# Altium integrated library TI Power Management Switching Regulator Charge Pump (Inductorless).IntLib: 239 symbols (part 11 of 14)
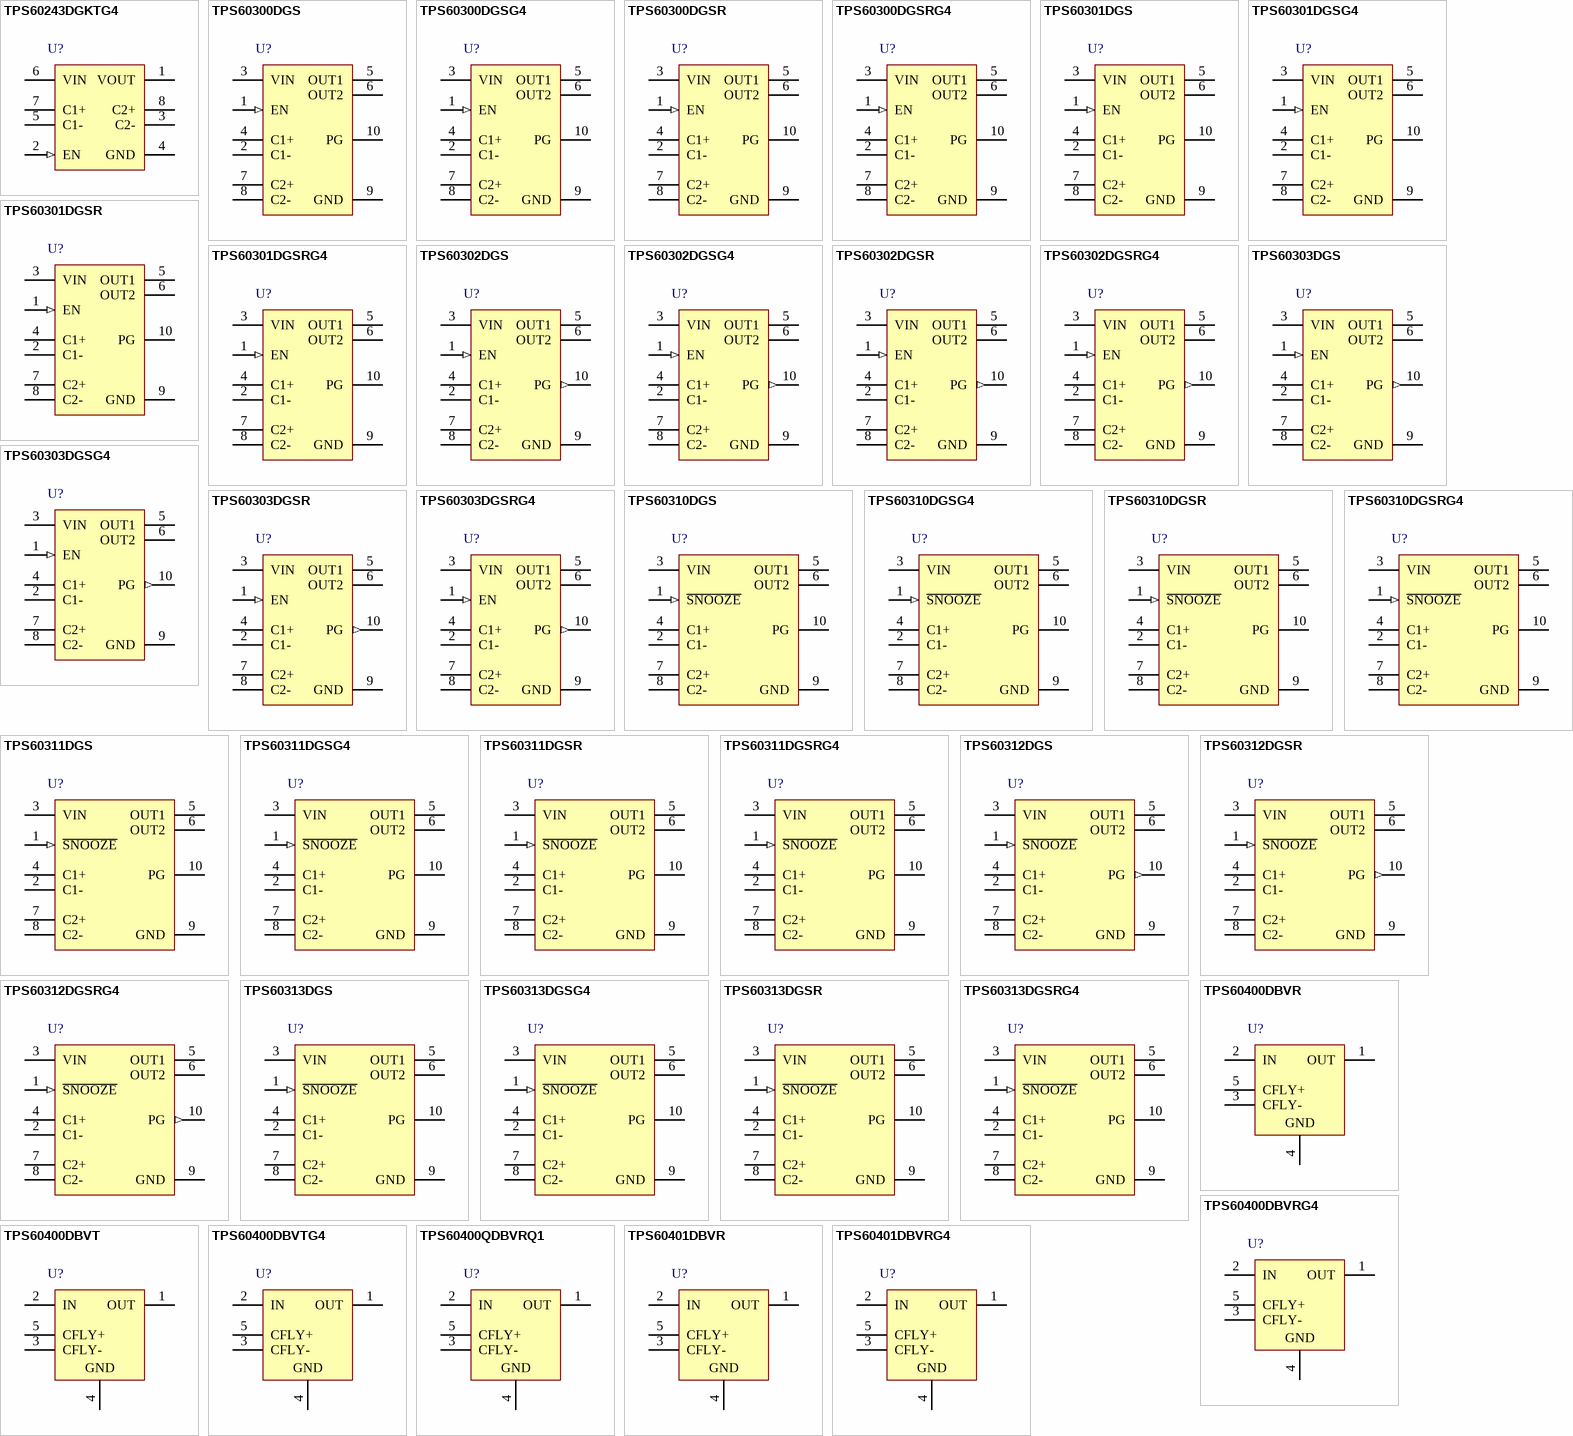
[diagram p17: symbols TPS60243DGKTG4 to TPS60401DBVRG4]

## TPS60300DGSG4
designator U?
3.3 V, Boost Charge Pump, 20 mA, 0.9 to 1.8 V Input, -40 to 85 degC, 10-pin SOP (DGS10), Green (RoHS & no Sb/Br); Manufacturer: Texas Instruments; PartNumber: TPS60300DGSG4; Efficiency(Typ)(%): 85; Iout(Max)(A): 0.02; Iq(Typ)(mA): 0.035; Preset Vout(V): 3.3; Vin(Max)(V): 1.8; Vin(Min)(V): 0.9; Vout(Max)(V): 3.43; Vout(Min)(V): 3.17; DatasheetVersion: SLVS302A; PackageVersion: 4073225-6/I; PackageReference: DGS10; PackageDescription: 10-Pin Plastic Small Outline, Body 3.00 x 3.00 mm, Pitch 0.50 mm; Supplier 1: Digi-Key; Supplier Part Number 1: TPS60300DGSG4-ND; Supplier 2: Newark; Supplier Part Number 2: 58K6941; Supplier 3: Mouser; Supplier Part Number 3: 595-TPS60300DGSG4; Eco-Plan: Green (RoHS & no Sb/Br); Topology: Boost; Mounting Technology: Surface Mount; Code_JEDEC: MO-153; ComponentLink1Description: Manufacturer URL; ComponentLink1URL: http://www.ti.com/; ComponentLink2Description: Datasheet; ComponentLink2URL: http://www.ti.com/general/docs/lit/getliterature.tsp?genericPartNumber=TPS60300&fileType=pdf; ComponentLink3Description: Package Specification; ComponentLink3URL: http://www.ti.com/litv/pdf/mpds373
footprint TI-DGS10_N (SOP, 10-Leads, Body 3x3mm, Pitch 0.5mm, IPC Medium Density)
footprint TI-DGS10_L (SOP, 10-Leads, Body 3x3mm, Pitch 0.5mm, IPC High Density)
footprint TI-DGS10_M (SOP, 10-Leads, Body 3x3mm, Pitch 0.5mm, IPC Low Density)
pins: 1 EN (in) "Device-enable input       - EN = Low disables the device. Output and input are isolated in shutdown mode.   - EN = High enables the device.", 2 C1- "Negative terminal of the flying capacitor C1F", 3 VIN (power) "Supply input. Bypass VIN to GND with a >=1-µF capacitor", 4 C1+ "Positive terminal of the flying capacitor C1F", 5 OUT1 (power) "2 x VIN power output. Bypass OUT1 to GND with the output filter capacitor C(OUT1)", 6 OUT2 (power) "Regulated 3.3-V power output (TPS60300, TPS60302) or 3-V power output (TPS60301, TPS60303), respectively Bypass OUT2 to GND with the output filter capacitor C(OUT2)", 7 C2+ "Positive terminal of the flying capacitor C2F", 8 C2- "Negative terminal of the flying capacitor C2F", 9 GND (power) "GROUND", 10 PG (oc) "Power good detector output. As soon as the voltage on OUT2 reaches about 98% of its nominal value this pin goes high.Open drain output on TPS60300 and TPS60301. A pullup resistor should be connected between PG and OUT1 or (See Datasheet)"

## TPS60300DGSR
designator U?
3.3 V, Boost Charge Pump, 20 mA, 0.9 to 1.8 V Input, -40 to 85 degC, 10-pin SOP (DGS10), Green (RoHS & no Sb/Br); Manufacturer: Texas Instruments; PartNumber: TPS60300DGSR; Efficiency(Typ)(%): 85; Iout(Max)(A): 0.02; Iq(Typ)(mA): 0.035; Preset Vout(V): 3.3; Vin(Max)(V): 1.8; Vin(Min)(V): 0.9; Vout(Max)(V): 3.43; Vout(Min)(V): 3.17; DatasheetVersion: SLVS302A; PackageVersion: 4073225-6/I; PackageReference: DGS10; PackageDescription: 10-Pin Plastic Small Outline, Body 3.00 x 3.00 mm, Pitch 0.50 mm; Supplier 1: Digi-Key; Supplier Part Number 1: 296-13410-2-ND; Supplier 2: Digi-Key; Supplier Part Number 2: 296-13410-1-ND; Supplier 3: Digi-Key; Supplier Part Number 3: 296-13410-6-ND; Supplier 4: Newark; Supplier Part Number 4: 77C0609; Supplier 5: Mouser; Supplier Part Number 5: 595-TPS60300DGSR; Eco-Plan: Green (RoHS & no Sb/Br); Topology: Boost; Mounting Technology: Surface Mount; Code_JEDEC: MO-153; ComponentLink1Description: Manufacturer URL; ComponentLink1URL: http://www.ti.com/; ComponentLink2Description: Datasheet; ComponentLink2URL: http://www.ti.com/general/docs/lit/getliterature.tsp?genericPartNumber=TPS60300&fileType=pdf; ComponentLink3Description: Package Specification; ComponentLink3URL: http://www.ti.com/litv/pdf/mpds373
footprint TI-DGS10_N (SOP, 10-Leads, Body 3x3mm, Pitch 0.5mm, IPC Medium Density)
footprint TI-DGS10_L (SOP, 10-Leads, Body 3x3mm, Pitch 0.5mm, IPC High Density)
footprint TI-DGS10_M (SOP, 10-Leads, Body 3x3mm, Pitch 0.5mm, IPC Low Density)
pins: 1 EN (in) "Device-enable input       - EN = Low disables the device. Output and input are isolated in shutdown mode.   - EN = High enables the device.", 2 C1- "Negative terminal of the flying capacitor C1F", 3 VIN (power) "Supply input. Bypass VIN to GND with a >=1-µF capacitor", 4 C1+ "Positive terminal of the flying capacitor C1F", 5 OUT1 (power) "2 x VIN power output. Bypass OUT1 to GND with the output filter capacitor C(OUT1)", 6 OUT2 (power) "Regulated 3.3-V power output (TPS60300, TPS60302) or 3-V power output (TPS60301, TPS60303), respectively Bypass OUT2 to GND with the output filter capacitor C(OUT2)", 7 C2+ "Positive terminal of the flying capacitor C2F", 8 C2- "Negative terminal of the flying capacitor C2F", 9 GND (power) "GROUND", 10 PG (oc) "Power good detector output. As soon as the voltage on OUT2 reaches about 98% of its nominal value this pin goes high.Open drain output on TPS60300 and TPS60301. A pullup resistor should be connected between PG and OUT1 or (See Datasheet)"

## TPS60300DGSRG4
designator U?
3.3 V, Boost Charge Pump, 20 mA, 0.9 to 1.8 V Input, -40 to 85 degC, 10-pin SOP (DGS10), Green (RoHS & no Sb/Br); Manufacturer: Texas Instruments; PartNumber: TPS60300DGSRG4; Efficiency(Typ)(%): 85; Iout(Max)(A): 0.02; Iq(Typ)(mA): 0.035; Preset Vout(V): 3.3; Vin(Max)(V): 1.8; Vin(Min)(V): 0.9; Vout(Max)(V): 3.43; Vout(Min)(V): 3.17; DatasheetVersion: SLVS302A; PackageVersion: 4073225-6/I; PackageReference: DGS10; PackageDescription: 10-Pin Plastic Small Outline, Body 3.00 x 3.00 mm, Pitch 0.50 mm; Supplier 1: Digi-Key; Supplier Part Number 1: TPS60300DGSRG4-ND; Supplier 2: Mouser; Supplier Part Number 2: 595-TPS60300DGSRG4; Eco-Plan: Green (RoHS & no Sb/Br); Topology: Boost; Mounting Technology: Surface Mount; Code_JEDEC: MO-153; ComponentLink1Description: Manufacturer URL; ComponentLink1URL: http://www.ti.com/; ComponentLink2Description: Datasheet; ComponentLink2URL: http://www.ti.com/general/docs/lit/getliterature.tsp?genericPartNumber=TPS60300&fileType=pdf; ComponentLink3Description: Package Specification; ComponentLink3URL: http://www.ti.com/litv/pdf/mpds373
footprint TI-DGS10_N (SOP, 10-Leads, Body 3x3mm, Pitch 0.5mm, IPC Medium Density)
footprint TI-DGS10_L (SOP, 10-Leads, Body 3x3mm, Pitch 0.5mm, IPC High Density)
footprint TI-DGS10_M (SOP, 10-Leads, Body 3x3mm, Pitch 0.5mm, IPC Low Density)
pins: 1 EN (in) "Device-enable input       - EN = Low disables the device. Output and input are isolated in shutdown mode.   - EN = High enables the device.", 2 C1- "Negative terminal of the flying capacitor C1F", 3 VIN (power) "Supply input. Bypass VIN to GND with a >=1-µF capacitor", 4 C1+ "Positive terminal of the flying capacitor C1F", 5 OUT1 (power) "2 x VIN power output. Bypass OUT1 to GND with the output filter capacitor C(OUT1)", 6 OUT2 (power) "Regulated 3.3-V power output (TPS60300, TPS60302) or 3-V power output (TPS60301, TPS60303), respectively Bypass OUT2 to GND with the output filter capacitor C(OUT2)", 7 C2+ "Positive terminal of the flying capacitor C2F", 8 C2- "Negative terminal of the flying capacitor C2F", 9 GND (power) "GROUND", 10 PG (oc) "Power good detector output. As soon as the voltage on OUT2 reaches about 98% of its nominal value this pin goes high.Open drain output on TPS60300 and TPS60301. A pullup resistor should be connected between PG and OUT1 or (See Datasheet)"

## TPS60301DGS
designator U?
3 V, Boost Charge Pump, 20 mA, 0.9 to 1.8 V Input, -40 to 85 degC, 10-pin SOP (DGS10), Green (RoHS & no Sb/Br); Manufacturer: Texas Instruments; PartNumber: TPS60301DGS; Efficiency(Typ)(%): 85; Iout(Max)(A): 0.02; Iq(Typ)(mA): 0.035; Preset Vout(V): 3; Switching Frequency(Max)(kHz): 650; Vin(Max)(V): 1.8; Vin(Min)(V): 0.9; Vout(Max)(V): 2.88; Vout(Min)(V): 3.12; DatasheetVersion: SLVS302A; PackageVersion: 4073225-6/I; PackageReference: DGS10; PackageDescription: 10-Pin Plastic Small Outline, Body 3.00 x 3.00 mm, Pitch 0.50 mm; Supplier 1: Digi-Key; Supplier Part Number 1: TPS60301DGS-ND; Supplier 2: Mouser; Supplier Part Number 2: 595-TPS60301DGS; Eco-Plan: Green (RoHS & no Sb/Br); Topology: Boost; Mounting Technology: Surface Mount; Code_JEDEC: MO-153; ComponentLink1Description: Manufacturer URL; ComponentLink1URL: http://www.ti.com/; ComponentLink2Description: Datasheet; ComponentLink2URL: http://www.ti.com/general/docs/lit/getliterature.tsp?genericPartNumber=TPS60301&fileType=pdf; ComponentLink3Description: Package Specification; ComponentLink3URL: http://www.ti.com/litv/pdf/mpds373
footprint TI-DGS10_N (SOP, 10-Leads, Body 3x3mm, Pitch 0.5mm, IPC Medium Density)
footprint TI-DGS10_L (SOP, 10-Leads, Body 3x3mm, Pitch 0.5mm, IPC High Density)
footprint TI-DGS10_M (SOP, 10-Leads, Body 3x3mm, Pitch 0.5mm, IPC Low Density)
pins: 1 EN (in) "Device-enable input - EN = Low disables the device. Output and input are isolated in shutdown mode.- EN = High enables the device.", 2 C1- "Negative terminal of the flying capacitor C1F", 3 VIN (power) "Supply input. Bypass VIN to GND with a >=1-µF capacitor.", 4 C1+ "Positive terminal of the flying capacitor C1F", 5 OUT1 (power) "2 x VIN power output. Bypass OUT1 to GND with the output filter capacitor C(OUT1)", 6 OUT2 (power) "Regulated 3.3-V power output (TPS60300, TPS60302) or 3-V power output (TPS60301, TPS60303), respectively Bypass OUT2 to GND with the output filter capacitor C(OUT2)", 7 C2+ "Positive terminal of the flying capacitor C2F", 8 C2- "Negative terminal of the flying capacitor C2F", 9 GND (power) "GROUND", 10 PG (oc) "Power good detector output. As soon as the voltage on OUT2 reaches about 98% of its nominal value this pin goes high. Open drain output on TPS60300 and TPS60301. A pullup resistor should be connected between PG and OUT1 or (See Datasheet)"

## TPS60301DGSG4
designator U?
3 V, Boost Charge Pump, 20 mA, 0.9 to 1.8 V Input, -40 to 85 degC, 10-pin SOP (DGS10), Green (RoHS & no Sb/Br); Manufacturer: Texas Instruments; PartNumber: TPS60301DGSG4; Efficiency(Typ)(%): 85; Iout(Max)(A): 0.02; Iq(Typ)(mA): 0.035; Preset Vout(V): 3; Switching Frequency(Max)(kHz): 650; Vin(Max)(V): 1.8; Vin(Min)(V): 0.9; Vout(Max)(V): 2.88; Vout(Min)(V): 3.12; DatasheetVersion: SLVS302A; PackageVersion: 4073225-6/I; PackageReference: DGS10; PackageDescription: 10-Pin Plastic Small Outline, Body 3.00 x 3.00 mm, Pitch 0.50 mm; Supplier 1: Digi-Key; Supplier Part Number 1: TPS60301DGSG4-ND; Supplier 2: Newark; Supplier Part Number 2: 60M1800; Supplier 3: Mouser; Supplier Part Number 3: 595-TPS60301DGSG4; Eco-Plan: Green (RoHS & no Sb/Br); Topology: Boost; Mounting Technology: Surface Mount; Code_JEDEC: MO-153; ComponentLink1Description: Manufacturer URL; ComponentLink1URL: http://www.ti.com/; ComponentLink2Description: Datasheet; ComponentLink2URL: http://www.ti.com/general/docs/lit/getliterature.tsp?genericPartNumber=TPS60301&fileType=pdf; ComponentLink3Description: Package Specification; ComponentLink3URL: http://www.ti.com/litv/pdf/mpds373
footprint TI-DGS10_N (SOP, 10-Leads, Body 3x3mm, Pitch 0.5mm, IPC Medium Density)
footprint TI-DGS10_L (SOP, 10-Leads, Body 3x3mm, Pitch 0.5mm, IPC High Density)
footprint TI-DGS10_M (SOP, 10-Leads, Body 3x3mm, Pitch 0.5mm, IPC Low Density)
pins: 1 EN (in) "Device-enable input - EN = Low disables the device. Output and input are isolated in shutdown mode.- EN = High enables the device.", 2 C1- "Negative terminal of the flying capacitor C1F", 3 VIN (power) "Supply input. Bypass VIN to GND with a >=1-µF capacitor.", 4 C1+ "Positive terminal of the flying capacitor C1F", 5 OUT1 (power) "2 x VIN power output. Bypass OUT1 to GND with the output filter capacitor C(OUT1)", 6 OUT2 (power) "Regulated 3.3-V power output (TPS60300, TPS60302) or 3-V power output (TPS60301, TPS60303), respectively Bypass OUT2 to GND with the output filter capacitor C(OUT2)", 7 C2+ "Positive terminal of the flying capacitor C2F", 8 C2- "Negative terminal of the flying capacitor C2F", 9 GND (power) "GROUND", 10 PG (oc) "Power good detector output. As soon as the voltage on OUT2 reaches about 98% of its nominal value this pin goes high. Open drain output on TPS60300 and TPS60301. A pullup resistor should be connected between PG and OUT1 or (See Datasheet)"

## TPS60301DGSR
designator U?
3 V, Boost Charge Pump, 20 mA, 0.9 to 1.8 V Input, -40 to 85 degC, 10-pin SOP (DGS10), Green (RoHS & no Sb/Br); Manufacturer: Texas Instruments; PartNumber: TPS60301DGSR; Efficiency(Typ)(%): 85; Iout(Max)(A): 0.02; Iq(Typ)(mA): 0.035; Preset Vout(V): 3; Switching Frequency(Max)(kHz): 650; Vin(Max)(V): 1.8; Vin(Min)(V): 0.9; Vout(Max)(V): 2.88; Vout(Min)(V): 3.12; DatasheetVersion: SLVS302A; PackageVersion: 4073225-6/I; PackageReference: DGS10; PackageDescription: 10-Pin Plastic Small Outline, Body 3.00 x 3.00 mm, Pitch 0.50 mm; Supplier 1: Digi-Key; Supplier Part Number 1: 296-13411-2-ND; Supplier 2: Digi-Key; Supplier Part Number 2: 296-13411-1-ND; Supplier 3: Digi-Key; Supplier Part Number 3: 296-13411-6-ND; Supplier 4: Newark; Supplier Part Number 4: 77C0611; Supplier 5: Mouser; Supplier Part Number 5: 595-TPS60301DGSR; Eco-Plan: Green (RoHS & no Sb/Br); Topology: Boost; Mounting Technology: Surface Mount; Code_JEDEC: MO-153; ComponentLink1Description: Manufacturer URL; ComponentLink1URL: http://www.ti.com/; ComponentLink2Description: Datasheet; ComponentLink2URL: http://www.ti.com/general/docs/lit/getliterature.tsp?genericPartNumber=TPS60301&fileType=pdf; ComponentLink3Description: Package Specification; ComponentLink3URL: http://www.ti.com/litv/pdf/mpds373
footprint TI-DGS10_N (SOP, 10-Leads, Body 3x3mm, Pitch 0.5mm, IPC Medium Density)
footprint TI-DGS10_L (SOP, 10-Leads, Body 3x3mm, Pitch 0.5mm, IPC High Density)
footprint TI-DGS10_M (SOP, 10-Leads, Body 3x3mm, Pitch 0.5mm, IPC Low Density)
pins: 1 EN (in) "Device-enable input - EN = Low disables the device. Output and input are isolated in shutdown mode.- EN = High enables the device.", 2 C1- "Negative terminal of the flying capacitor C1F", 3 VIN (power) "Supply input. Bypass VIN to GND with a >=1-µF capacitor.", 4 C1+ "Positive terminal of the flying capacitor C1F", 5 OUT1 (power) "2 x VIN power output. Bypass OUT1 to GND with the output filter capacitor C(OUT1)", 6 OUT2 (power) "Regulated 3.3-V power output (TPS60300, TPS60302) or 3-V power output (TPS60301, TPS60303), respectively Bypass OUT2 to GND with the output filter capacitor C(OUT2)", 7 C2+ "Positive terminal of the flying capacitor C2F", 8 C2- "Negative terminal of the flying capacitor C2F", 9 GND (power) "GROUND", 10 PG (oc) "Power good detector output. As soon as the voltage on OUT2 reaches about 98% of its nominal value this pin goes high. Open drain output on TPS60300 and TPS60301. A pullup resistor should be connected between PG and OUT1 or (See Datasheet)"

## TPS60301DGSRG4
designator U?
3 V, Boost Charge Pump, 20 mA, 0.9 to 1.8 V Input, -40 to 85 degC, 10-pin SOP (DGS10), Green (RoHS & no Sb/Br); Manufacturer: Texas Instruments; PartNumber: TPS60301DGSRG4; Efficiency(Typ)(%): 85; Iout(Max)(A): 0.02; Iq(Typ)(mA): 0.035; Preset Vout(V): 3; Switching Frequency(Max)(kHz): 650; Vin(Max)(V): 1.8; Vin(Min)(V): 0.9; Vout(Max)(V): 2.88; Vout(Min)(V): 3.12; DatasheetVersion: SLVS302A; PackageVersion: 4073225-6/I; PackageReference: DGS10; PackageDescription: 10-Pin Plastic Small Outline, Body 3.00 x 3.00 mm, Pitch 0.50 mm; Supplier 1: Digi-Key; Supplier Part Number 1: TPS60301DGSRG4-ND; Supplier 2: Newark; Supplier Part Number 2: 33K7639; Supplier 3: Mouser; Supplier Part Number 3: 595-TPS60301DGSRG4; Eco-Plan: Green (RoHS & no Sb/Br); Topology: Boost; Mounting Technology: Surface Mount; Code_JEDEC: MO-153; ComponentLink1Description: Manufacturer URL; ComponentLink1URL: http://www.ti.com/; ComponentLink2Description: Datasheet; ComponentLink2URL: http://www.ti.com/general/docs/lit/getliterature.tsp?genericPartNumber=TPS60301&fileType=pdf; ComponentLink3Description: Package Specification; ComponentLink3URL: http://www.ti.com/litv/pdf/mpds373
footprint TI-DGS10_N (SOP, 10-Leads, Body 3x3mm, Pitch 0.5mm, IPC Medium Density)
footprint TI-DGS10_L (SOP, 10-Leads, Body 3x3mm, Pitch 0.5mm, IPC High Density)
footprint TI-DGS10_M (SOP, 10-Leads, Body 3x3mm, Pitch 0.5mm, IPC Low Density)
pins: 1 EN (in) "Device-enable input - EN = Low disables the device. Output and input are isolated in shutdown mode.- EN = High enables the device.", 2 C1- "Negative terminal of the flying capacitor C1F", 3 VIN (power) "Supply input. Bypass VIN to GND with a >=1-µF capacitor.", 4 C1+ "Positive terminal of the flying capacitor C1F", 5 OUT1 (power) "2 x VIN power output. Bypass OUT1 to GND with the output filter capacitor C(OUT1)", 6 OUT2 (power) "Regulated 3.3-V power output (TPS60300, TPS60302) or 3-V power output (TPS60301, TPS60303), respectively Bypass OUT2 to GND with the output filter capacitor C(OUT2)", 7 C2+ "Positive terminal of the flying capacitor C2F", 8 C2- "Negative terminal of the flying capacitor C2F", 9 GND (power) "GROUND", 10 PG (oc) "Power good detector output. As soon as the voltage on OUT2 reaches about 98% of its nominal value this pin goes high. Open drain output on TPS60300 and TPS60301. A pullup resistor should be connected between PG and OUT1 or (See Datasheet)"

## TPS60302DGS
designator U?
3.3 V, Boost Charge Pump, 20 mA, 0.9 to 1.8 V Input, -40 to 85 degC, 10-pin SOP (DGS10), Green (RoHS & no Sb/Br); Manufacturer: Texas Instruments; PartNumber: TPS60302DGS; Efficiency(Typ)(%): 85; Iout(Max)(A): 0.02; Iq(Typ)(mA): 0.035; Preset Vout(V): 3.3; Switching Frequency(Max)(kHz): 650; Vin(Max)(V): 1.8; Vin(Min)(V): 0.9; Vout(Max)(V): 3.43; Vout(Min)(V): 3.17; DatasheetVersion: SLVS302A; PackageVersion: 4073225-6/I; PackageReference: DGS10; PackageDescription: 10-Pin Plastic Small Outline, Body 3.00 x 3.00 mm, Pitch 0.50 mm; Supplier 1: Digi-Key; Supplier Part Number 1: TPS60302DGS-ND; Supplier 2: Mouser; Supplier Part Number 2: 595-TPS60302DGS; Eco-Plan: Green (RoHS & no Sb/Br); Topology: Boost; Mounting Technology: Surface Mount; Code_JEDEC: MO-153; ComponentLink1Description: Manufacturer URL; ComponentLink1URL: http://www.ti.com/; ComponentLink2Description: Datasheet; ComponentLink2URL: http://www.ti.com/general/docs/lit/getliterature.tsp?genericPartNumber=TPS60302&fileType=pdf; ComponentLink3Description: Package Specification; ComponentLink3URL: http://www.ti.com/litv/pdf/mpds373
footprint TI-DGS10_N (SOP, 10-Leads, Body 3x3mm, Pitch 0.5mm, IPC Medium Density)
footprint TI-DGS10_L (SOP, 10-Leads, Body 3x3mm, Pitch 0.5mm, IPC High Density)
footprint TI-DGS10_M (SOP, 10-Leads, Body 3x3mm, Pitch 0.5mm, IPC Low Density)
pins: 1 EN (in) "Device-enable input - EN = Low disables the device. Output and input are isolated in shutdown mode.- EN = High enables the device.", 2 C1- "Negative terminal of the flying capacitor C1F", 3 VIN (power) "Supply input. Bypass VIN to GND with a >=1-uF capacitor", 4 C1+ "Positive terminal of the flying capacitor C1F", 5 OUT1 (power) "2 x VIN power output. Bypass OUT1 to GND with the output filter capacitor C(OUT1)", 6 OUT2 (power) "Regulated 3.3-V power output (TPS60300, TPS60302) or 3-V power output (TPS60301, TPS60303), respectively Bypass OUT2 to GND with the output filter capacitor C(OUT2)", 7 C2+ "Positive terminal of the flying capacitor C2F", 8 C2- "Negative terminal of the flying capacitor C2F", 9 GND (power) "GROUND", 10 PG (out) "Power good detector output. As soon as the voltage on OUT2 reaches about 98% of its nominal value this pin goes high. Open drain output on TPS60300 and TPS60301. A pullup resistor should be connected between PG and OUT1 or (See Datasheet)"

## TPS60302DGSG4
designator U?
3.3 V, Boost Charge Pump, 20 mA, 0.9 to 1.8 V Input, -40 to 85 degC, 10-pin SOP (DGS10), Green (RoHS & no Sb/Br); Manufacturer: Texas Instruments; PartNumber: TPS60302DGSG4; Efficiency(Typ)(%): 85; Iout(Max)(A): 0.02; Iq(Typ)(mA): 0.035; Preset Vout(V): 3.3; Switching Frequency(Max)(kHz): 650; Vin(Max)(V): 1.8; Vin(Min)(V): 0.9; Vout(Max)(V): 3.43; Vout(Min)(V): 3.17; DatasheetVersion: SLVS302A; PackageVersion: 4073225-6/I; PackageReference: DGS10; PackageDescription: 10-Pin Plastic Small Outline, Body 3.00 x 3.00 mm, Pitch 0.50 mm; Supplier 1: Digi-Key; Supplier Part Number 1: TPS60302DGSG4-ND; Supplier 2: Newark; Supplier Part Number 2: 52M6120; Supplier 3: Mouser; Supplier Part Number 3: 595-TPS60302DGSG4; Eco-Plan: Green (RoHS & no Sb/Br); Topology: Boost; Mounting Technology: Surface Mount; Code_JEDEC: MO-153; ComponentLink1Description: Manufacturer URL; ComponentLink1URL: http://www.ti.com/; ComponentLink2Description: Datasheet; ComponentLink2URL: http://www.ti.com/general/docs/lit/getliterature.tsp?genericPartNumber=TPS60302&fileType=pdf; ComponentLink3Description: Package Specification; ComponentLink3URL: http://www.ti.com/litv/pdf/mpds373
footprint TI-DGS10_N (SOP, 10-Leads, Body 3x3mm, Pitch 0.5mm, IPC Medium Density)
footprint TI-DGS10_L (SOP, 10-Leads, Body 3x3mm, Pitch 0.5mm, IPC High Density)
footprint TI-DGS10_M (SOP, 10-Leads, Body 3x3mm, Pitch 0.5mm, IPC Low Density)
pins: 1 EN (in) "Device-enable input - EN = Low disables the device. Output and input are isolated in shutdown mode.- EN = High enables the device.", 2 C1- "Negative terminal of the flying capacitor C1F", 3 VIN (power) "Supply input. Bypass VIN to GND with a >=1-uF capacitor", 4 C1+ "Positive terminal of the flying capacitor C1F", 5 OUT1 (power) "2 x VIN power output. Bypass OUT1 to GND with the output filter capacitor C(OUT1)", 6 OUT2 (power) "Regulated 3.3-V power output (TPS60300, TPS60302) or 3-V power output (TPS60301, TPS60303), respectively Bypass OUT2 to GND with the output filter capacitor C(OUT2)", 7 C2+ "Positive terminal of the flying capacitor C2F", 8 C2- "Negative terminal of the flying capacitor C2F", 9 GND (power) "GROUND", 10 PG (out) "Power good detector output. As soon as the voltage on OUT2 reaches about 98% of its nominal value this pin goes high. Open drain output on TPS60300 and TPS60301. A pullup resistor should be connected between PG and OUT1 or (See Datasheet)"

## TPS60302DGSR
designator U?
3.3 V, Boost Charge Pump, 20 mA, 0.9 to 1.8 V Input, -40 to 85 degC, 10-pin SOP (DGS10), Green (RoHS & no Sb/Br); Manufacturer: Texas Instruments; PartNumber: TPS60302DGSR; Efficiency(Typ)(%): 85; Iout(Max)(A): 0.02; Iq(Typ)(mA): 0.035; Preset Vout(V): 3.3; Switching Frequency(Max)(kHz): 650; Vin(Max)(V): 1.8; Vin(Min)(V): 0.9; Vout(Max)(V): 3.43; Vout(Min)(V): 3.17; DatasheetVersion: SLVS302A; PackageVersion: 4073225-6/I; PackageReference: DGS10; PackageDescription: 10-Pin Plastic Small Outline, Body 3.00 x 3.00 mm, Pitch 0.50 mm; Supplier 1: Digi-Key; Supplier Part Number 1: 296-13412-2-ND; Supplier 2: Digi-Key; Supplier Part Number 2: 296-13412-1-ND; Supplier 3: Digi-Key; Supplier Part Number 3: 296-13412-6-ND; Supplier 4: Mouser; Supplier Part Number 4: 595-TPS60302DGSR; Eco-Plan: Green (RoHS & no Sb/Br); Topology: Boost; Mounting Technology: Surface Mount; Code_JEDEC: MO-153; ComponentLink1Description: Manufacturer URL; ComponentLink1URL: http://www.ti.com/; ComponentLink2Description: Datasheet; ComponentLink2URL: http://www.ti.com/general/docs/lit/getliterature.tsp?genericPartNumber=TPS60302&fileType=pdf; ComponentLink3Description: Package Specification; ComponentLink3URL: http://www.ti.com/litv/pdf/mpds373
footprint TI-DGS10_N (SOP, 10-Leads, Body 3x3mm, Pitch 0.5mm, IPC Medium Density)
footprint TI-DGS10_L (SOP, 10-Leads, Body 3x3mm, Pitch 0.5mm, IPC High Density)
footprint TI-DGS10_M (SOP, 10-Leads, Body 3x3mm, Pitch 0.5mm, IPC Low Density)
pins: 1 EN (in) "Device-enable input - EN = Low disables the device. Output and input are isolated in shutdown mode.- EN = High enables the device.", 2 C1- "Negative terminal of the flying capacitor C1F", 3 VIN (power) "Supply input. Bypass VIN to GND with a >=1-uF capacitor", 4 C1+ "Positive terminal of the flying capacitor C1F", 5 OUT1 (power) "2 x VIN power output. Bypass OUT1 to GND with the output filter capacitor C(OUT1)", 6 OUT2 (power) "Regulated 3.3-V power output (TPS60300, TPS60302) or 3-V power output (TPS60301, TPS60303), respectively Bypass OUT2 to GND with the output filter capacitor C(OUT2)", 7 C2+ "Positive terminal of the flying capacitor C2F", 8 C2- "Negative terminal of the flying capacitor C2F", 9 GND (power) "GROUND", 10 PG (out) "Power good detector output. As soon as the voltage on OUT2 reaches about 98% of its nominal value this pin goes high. Open drain output on TPS60300 and TPS60301. A pullup resistor should be connected between PG and OUT1 or (See Datasheet)"

## TPS60302DGSRG4
designator U?
3.3 V, Boost Charge Pump, 20 mA, 0.9 to 1.8 V Input, -40 to 85 degC, 10-pin SOP (DGS10), Green (RoHS & no Sb/Br); Manufacturer: Texas Instruments; PartNumber: TPS60302DGSRG4; Efficiency(Typ)(%): 85; Iout(Max)(A): 0.02; Iq(Typ)(mA): 0.035; Preset Vout(V): 3.3; Switching Frequency(Max)(kHz): 650; Vin(Max)(V): 1.8; Vin(Min)(V): 0.9; Vout(Max)(V): 3.43; Vout(Min)(V): 3.17; DatasheetVersion: SLVS302A; PackageVersion: 4073225-6/I; PackageReference: DGS10; PackageDescription: 10-Pin Plastic Small Outline, Body 3.00 x 3.00 mm, Pitch 0.50 mm; Supplier 1: Digi-Key; Supplier Part Number 1: TPS60302DGSRG4-ND; Supplier 2: Mouser; Supplier Part Number 2: 595-TPS60302DGSRG4; Eco-Plan: Green (RoHS & no Sb/Br); Topology: Boost; Mounting Technology: Surface Mount; Code_JEDEC: MO-153; ComponentLink1Description: Manufacturer URL; ComponentLink1URL: http://www.ti.com/; ComponentLink2Description: Datasheet; ComponentLink2URL: http://www.ti.com/general/docs/lit/getliterature.tsp?genericPartNumber=TPS60302&fileType=pdf; ComponentLink3Description: Package Specification; ComponentLink3URL: http://www.ti.com/litv/pdf/mpds373
footprint TI-DGS10_N (SOP, 10-Leads, Body 3x3mm, Pitch 0.5mm, IPC Medium Density)
footprint TI-DGS10_L (SOP, 10-Leads, Body 3x3mm, Pitch 0.5mm, IPC High Density)
footprint TI-DGS10_M (SOP, 10-Leads, Body 3x3mm, Pitch 0.5mm, IPC Low Density)
pins: 1 EN (in) "Device-enable input - EN = Low disables the device. Output and input are isolated in shutdown mode.- EN = High enables the device.", 2 C1- "Negative terminal of the flying capacitor C1F", 3 VIN (power) "Supply input. Bypass VIN to GND with a >=1-uF capacitor", 4 C1+ "Positive terminal of the flying capacitor C1F", 5 OUT1 (power) "2 x VIN power output. Bypass OUT1 to GND with the output filter capacitor C(OUT1)", 6 OUT2 (power) "Regulated 3.3-V power output (TPS60300, TPS60302) or 3-V power output (TPS60301, TPS60303), respectively Bypass OUT2 to GND with the output filter capacitor C(OUT2)", 7 C2+ "Positive terminal of the flying capacitor C2F", 8 C2- "Negative terminal of the flying capacitor C2F", 9 GND (power) "GROUND", 10 PG (out) "Power good detector output. As soon as the voltage on OUT2 reaches about 98% of its nominal value this pin goes high. Open drain output on TPS60300 and TPS60301. A pullup resistor should be connected between PG and OUT1 or (See Datasheet)"

## TPS60303DGS
designator U?
3 V, Boost Charge Pump, 20 mA, 0.9 to 1.8 V Input, -40 to 85 degC, 10-pin SOP (DGS10), Green (RoHS & no Sb/Br); Manufacturer: Texas Instruments; PartNumber: TPS60303DGS; Efficiency(Typ)(%): 85; Iout(Max)(A): 0.02; Iq(Typ)(mA): 0.035; Preset Vout(V): 3; Switching Frequency(Max)(kHz): 650; Vin(Max)(V): 1.8; Vin(Min)(V): 0.9; Vout(Max)(V): 3.12; Vout(Min)(V): 2.88; DatasheetVersion: SLVS302A; PackageVersion: 4073225-6/I; PackageReference: DGS10; PackageDescription: 10-Pin Plastic Small Outline, Body 3.00 x 3.00 mm, Pitch 0.50 mm; Supplier 1: Digi-Key; Supplier Part Number 1: TPS60303DGS-ND; Supplier 2: Mouser; Supplier Part Number 2: 595-TPS60303DGS; Topology: Boost; Mounting Technology: Surface Mount; Code_JEDEC: MO-153; ComponentLink1Description: Manufacturer URL; ComponentLink1URL: http://www.ti.com/; ComponentLink2Description: Datasheet; ComponentLink2URL: http://www.ti.com/general/docs/lit/getliterature.tsp?genericPartNumber=TPS60303&fileType=pdf; ComponentLink3Description: Package Specification; ComponentLink3URL: http://www.ti.com/litv/pdf/mpds373
footprint TI-DGS10_N (SOP, 10-Leads, Body 3x3mm, Pitch 0.5mm, IPC Medium Density)
footprint TI-DGS10_L (SOP, 10-Leads, Body 3x3mm, Pitch 0.5mm, IPC High Density)
footprint TI-DGS10_M (SOP, 10-Leads, Body 3x3mm, Pitch 0.5mm, IPC Low Density)
pins: 1 EN (in) "Device-enable input - EN = Low disables the device. Output and input are isolated in shutdown mode.- EN = High enables the device.", 2 C1- "Negative terminal of the flying capacitor C1F", 3 VIN (power) "Supply input. Bypass VIN to GND with a >=1-uF capacitor", 4 C1+ "Positive terminal of the flying capacitor C1F", 5 OUT1 (power) "2 x VIN power output. Bypass OUT1 to GND with the output filter capacitor C(OUT1)", 6 OUT2 (power) "Regulated 3.3-V power output (TPS60300, TPS60302) or 3-V power output (TPS60301, TPS60303), respectively Bypass OUT2 to GND with the output filter capacitor C(OUT2)", 7 C2+ "Positive terminal of the flying capacitor C2F", 8 C2- "Negative terminal of the flying capacitor C2F", 9 GND (power) "GROUND", 10 PG (out) "Power good detector output. As soon as the voltage on OUT2 reaches about 98% of its nominal value this pin goes high. Open drain output on TPS60300 and TPS60301. A pullup resistor should be connected between PG and OUT1 or (See Datasheet)"

## TPS60303DGSG4
designator U?
3 V, Boost Charge Pump, 20 mA, 0.9 to 1.8 V Input, -40 to 85 degC, 10-pin SOP (DGS10), Green (RoHS & no Sb/Br); Manufacturer: Texas Instruments; PartNumber: TPS60303DGSG4; Efficiency(Typ)(%): 85; Iout(Max)(A): 0.02; Iq(Typ)(mA): 0.035; Preset Vout(V): 3; Switching Frequency(Max)(kHz): 650; Vin(Max)(V): 1.8; Vin(Min)(V): 0.9; Vout(Max)(V): 3.12; Vout(Min)(V): 2.88; DatasheetVersion: SLVS302A; PackageVersion: 4073225-6/I; PackageReference: DGS10; PackageDescription: 10-Pin Plastic Small Outline, Body 3.00 x 3.00 mm, Pitch 0.50 mm; Supplier 1: Digi-Key; Supplier Part Number 1: TPS60303DGSG4-ND; Supplier 2: Mouser; Supplier Part Number 2: 595-TPS60303DGSG4; Topology: Boost; Mounting Technology: Surface Mount; Code_JEDEC: MO-153; ComponentLink1Description: Manufacturer URL; ComponentLink1URL: http://www.ti.com/; ComponentLink2Description: Datasheet; ComponentLink2URL: http://www.ti.com/general/docs/lit/getliterature.tsp?genericPartNumber=TPS60303&fileType=pdf; ComponentLink3Description: Package Specification; ComponentLink3URL: http://www.ti.com/litv/pdf/mpds373
footprint TI-DGS10_N (SOP, 10-Leads, Body 3x3mm, Pitch 0.5mm, IPC Medium Density)
footprint TI-DGS10_L (SOP, 10-Leads, Body 3x3mm, Pitch 0.5mm, IPC High Density)
footprint TI-DGS10_M (SOP, 10-Leads, Body 3x3mm, Pitch 0.5mm, IPC Low Density)
pins: 1 EN (in) "Device-enable input - EN = Low disables the device. Output and input are isolated in shutdown mode.- EN = High enables the device.", 2 C1- "Negative terminal of the flying capacitor C1F", 3 VIN (power) "Supply input. Bypass VIN to GND with a >=1-uF capacitor", 4 C1+ "Positive terminal of the flying capacitor C1F", 5 OUT1 (power) "2 x VIN power output. Bypass OUT1 to GND with the output filter capacitor C(OUT1)", 6 OUT2 (power) "Regulated 3.3-V power output (TPS60300, TPS60302) or 3-V power output (TPS60301, TPS60303), respectively Bypass OUT2 to GND with the output filter capacitor C(OUT2)", 7 C2+ "Positive terminal of the flying capacitor C2F", 8 C2- "Negative terminal of the flying capacitor C2F", 9 GND (power) "GROUND", 10 PG (out) "Power good detector output. As soon as the voltage on OUT2 reaches about 98% of its nominal value this pin goes high. Open drain output on TPS60300 and TPS60301. A pullup resistor should be connected between PG and OUT1 or (See Datasheet)"

## TPS60303DGSR
designator U?
3 V, Boost Charge Pump, 20 mA, 0.9 to 1.8 V Input, -40 to 85 degC, 10-pin SOP (DGS10), Green (RoHS & no Sb/Br); Manufacturer: Texas Instruments; PartNumber: TPS60303DGSR; Efficiency(Typ)(%): 85; Iout(Max)(A): 0.02; Iq(Typ)(mA): 0.035; Preset Vout(V): 3; Switching Frequency(Max)(kHz): 650; Vin(Max)(V): 1.8; Vin(Min)(V): 0.9; Vout(Max)(V): 3.12; Vout(Min)(V): 2.88; DatasheetVersion: SLVS302A; PackageVersion: 4073225-6/I; PackageReference: DGS10; PackageDescription: 10-Pin Plastic Small Outline, Body 3.00 x 3.00 mm, Pitch 0.50 mm; Supplier 1: Digi-Key; Supplier Part Number 1: 296-13413-2-ND; Supplier 2: Digi-Key; Supplier Part Number 2: 296-13413-1-ND; Supplier 3: Digi-Key; Supplier Part Number 3: 296-13413-6-ND; Supplier 4: Mouser; Supplier Part Number 4: 595-TPS60303DGSR; Eco-Plan: Green (RoHS & no Sb/Br); Topology: Boost; Mounting Technology: Surface Mount; Code_JEDEC: MO-153; ComponentLink1Description: Manufacturer URL; ComponentLink1URL: http://www.ti.com/; ComponentLink2Description: Datasheet; ComponentLink2URL: http://www.ti.com/general/docs/lit/getliterature.tsp?genericPartNumber=TPS60303&fileType=pdf; ComponentLink3Description: Package Specification; ComponentLink3URL: http://www.ti.com/litv/pdf/mpds373
footprint TI-DGS10_N (SOP, 10-Leads, Body 3x3mm, Pitch 0.5mm, IPC Medium Density)
footprint TI-DGS10_L (SOP, 10-Leads, Body 3x3mm, Pitch 0.5mm, IPC High Density)
footprint TI-DGS10_M (SOP, 10-Leads, Body 3x3mm, Pitch 0.5mm, IPC Low Density)
pins: 1 EN (in) "Device-enable input - EN = Low disables the device. Output and input are isolated in shutdown mode.- EN = High enables the device.", 2 C1- "Negative terminal of the flying capacitor C1F", 3 VIN (power) "Supply input. Bypass VIN to GND with a >=1-uF capacitor", 4 C1+ "Positive terminal of the flying capacitor C1F", 5 OUT1 (power) "2 x VIN power output. Bypass OUT1 to GND with the output filter capacitor C(OUT1)", 6 OUT2 (power) "Regulated 3.3-V power output (TPS60300, TPS60302) or 3-V power output (TPS60301, TPS60303), respectively Bypass OUT2 to GND with the output filter capacitor C(OUT2)", 7 C2+ "Positive terminal of the flying capacitor C2F", 8 C2- "Negative terminal of the flying capacitor C2F", 9 GND (power) "GROUND", 10 PG (out) "Power good detector output. As soon as the voltage on OUT2 reaches about 98% of its nominal value this pin goes high. Open drain output on TPS60300 and TPS60301. A pullup resistor should be connected between PG and OUT1 or (See Datasheet)"

## TPS60303DGSRG4
designator U?
3 V, Boost Charge Pump, 20 mA, 0.9 to 1.8 V Input, -40 to 85 degC, 10-pin SOP (DGS10), Green (RoHS & no Sb/Br); Manufacturer: Texas Instruments; PartNumber: TPS60303DGSRG4; Efficiency(Typ)(%): 85; Iout(Max)(A): 0.02; Iq(Typ)(mA): 0.035; Preset Vout(V): 3; Switching Frequency(Max)(kHz): 650; Vin(Max)(V): 1.8; Vin(Min)(V): 0.9; Vout(Max)(V): 3.12; Vout(Min)(V): 2.88; DatasheetVersion: SLVS302A; PackageVersion: 4073225-6/I; PackageReference: DGS10; PackageDescription: 10-Pin Plastic Small Outline, Body 3.00 x 3.00 mm, Pitch 0.50 mm; Supplier 1: Digi-Key; Supplier Part Number 1: TPS60303DGSRG4-ND; Supplier 2: Mouser; Supplier Part Number 2: 595-TPS60303DGSRG4; Eco-Plan: Green (RoHS & no Sb/Br); Topology: Boost; Mounting Technology: Surface Mount; Code_JEDEC: MO-153; ComponentLink1Description: Manufacturer URL; ComponentLink1URL: http://www.ti.com/; ComponentLink2Description: Datasheet; ComponentLink2URL: http://www.ti.com/general/docs/lit/getliterature.tsp?genericPartNumber=TPS60303&fileType=pdf; ComponentLink3Description: Package Specification; ComponentLink3URL: http://www.ti.com/litv/pdf/mpds373
footprint TI-DGS10_N (SOP, 10-Leads, Body 3x3mm, Pitch 0.5mm, IPC Medium Density)
footprint TI-DGS10_L (SOP, 10-Leads, Body 3x3mm, Pitch 0.5mm, IPC High Density)
footprint TI-DGS10_M (SOP, 10-Leads, Body 3x3mm, Pitch 0.5mm, IPC Low Density)
pins: 1 EN (in) "Device-enable input - EN = Low disables the device. Output and input are isolated in shutdown mode.- EN = High enables the device.", 2 C1- "Negative terminal of the flying capacitor C1F", 3 VIN (power) "Supply input. Bypass VIN to GND with a >=1-uF capacitor", 4 C1+ "Positive terminal of the flying capacitor C1F", 5 OUT1 (power) "2 x VIN power output. Bypass OUT1 to GND with the output filter capacitor C(OUT1)", 6 OUT2 (power) "Regulated 3.3-V power output (TPS60300, TPS60302) or 3-V power output (TPS60301, TPS60303), respectively Bypass OUT2 to GND with the output filter capacitor C(OUT2)", 7 C2+ "Positive terminal of the flying capacitor C2F", 8 C2- "Negative terminal of the flying capacitor C2F", 9 GND (power) "GROUND", 10 PG (out) "Power good detector output. As soon as the voltage on OUT2 reaches about 98% of its nominal value this pin goes high. Open drain output on TPS60300 and TPS60301. A pullup resistor should be connected between PG and OUT1 or (See Datasheet)"

## TPS60310DGS
designator U?
3.3 V, Boost Charge Pump, 20 mA, 0.9 to 1.8 V Input, -40 to 125 degC, 10-pin SOP (DGS10), Green (RoHS & no Sb/Br); Manufacturer: Texas Instruments; PartNumber: TPS60310DGS; Efficiency(Typ)(%): 85; Iout(Max)(A): 0.02; Iq(Typ)(mA): 0.035; Preset Vout(V): 3.3; Switching Frequency(Max)(kHz): 900; Vin(Max)(V): 1.8; Vin(Min)(V): 0.9; Vout(Max)(V): 3.43; Vout(Min)(V): 3.17; DatasheetVersion: SLVS362A; PackageVersion: 4073225-6/I; PackageReference: DGS10; PackageDescription: 10-Pin Plastic Small Outline, Body 3.00 x 3.00 mm, Pitch 0.50 mm; Supplier 1: Digi-Key; Supplier Part Number 1: 296-34624-5-ND; Supplier 2: Mouser; Supplier Part Number 2: 595-TPS60310DGS; Eco-Plan: Green (RoHS & no Sb/Br); Topology: Boost; Mounting Technology: Surface Mount; Code_JEDEC: MO-153; ComponentLink1Description: Manufacturer URL; ComponentLink1URL: http://www.ti.com/; ComponentLink2Description: Datasheet; ComponentLink2URL: http://www.ti.com/general/docs/lit/getliterature.tsp?genericPartNumber=TPS60310&fileType=pdf; ComponentLink3Description: Package Specification; ComponentLink3URL: http://www.ti.com/litv/pdf/mpds373
footprint TI-DGS10_N (SOP, 10-Leads, Body 3x3mm, Pitch 0.5mm, IPC Medium Density)
footprint TI-DGS10_L (SOP, 10-Leads, Body 3x3mm, Pitch 0.5mm, IPC High Density)
footprint TI-DGS10_M (SOP, 10-Leads, Body 3x3mm, Pitch 0.5mm, IPC Low Density)
pins: 1 ~{SNOOZE} (in) "Snooze mode enable input - S\N\O\O\Z\E\ = Low enables the snooze mode at low output current. - S\N\O\O\Z\E\ = High disables the snooze mode.", 2 C1- "Negative terminal of the flying capacitor C1F", 3 VIN (power) "Supply input. Bypass VIN to GND with a = 1-µF capacitor", 4 C1+ "Positive terminal of the flying capacitor C1F", 5 OUT1 (power) "2 x VIN power output. Bypass OUT1 to GND with the output filter capacitor C(OUT1)", 6 OUT2 (power) "Regulated 3.3-V power output (TPS60310, TPS60312) or 3-V power output (TPS60311, TPS60313), respectively Bypass OUT2 to GND with the output filter capacitor C(OUT2)", 7 C2+ "Positive terminal of the flying capacitor C2F", 8 C2- "Negative terminal of the flying capacitor C2F", 9 GND (power) "GROUND", 10 PG (oc) "Power good detector output. As soon as the voltage on OUT2 reaches about 98% of its nominal value this pin goes high. Open drain output on TPS60310 and TPS60311. A pullup resistor should be connected between PG and OUT1 or (See Datasheet)"

## TPS60310DGSG4
designator U?
3.3 V, Boost Charge Pump, 20 mA, 0.9 to 1.8 V Input, -40 to 125 degC, 10-pin SOP (DGS10), Green (RoHS & no Sb/Br); Manufacturer: Texas Instruments; PartNumber: TPS60310DGSG4; Efficiency(Typ)(%): 85; Iout(Max)(A): 0.02; Iq(Typ)(mA): 0.035; Preset Vout(V): 3.3; Switching Frequency(Max)(kHz): 900; Vin(Max)(V): 1.8; Vin(Min)(V): 0.9; Vout(Max)(V): 3.43; Vout(Min)(V): 3.17; DatasheetVersion: SLVS362A; PackageVersion: 4073225-6/I; PackageReference: DGS10; PackageDescription: 10-Pin Plastic Small Outline, Body 3.00 x 3.00 mm, Pitch 0.50 mm; Supplier 1: Digi-Key; Supplier Part Number 1: TPS60310DGSG4-ND; Supplier 2: Mouser; Supplier Part Number 2: 595-TPS60310DGSG4; Eco-Plan: Green (RoHS & no Sb/Br); Topology: Boost; Mounting Technology: Surface Mount; Code_JEDEC: MO-153; ComponentLink1Description: Manufacturer URL; ComponentLink1URL: http://www.ti.com/; ComponentLink2Description: Datasheet; ComponentLink2URL: http://www.ti.com/general/docs/lit/getliterature.tsp?genericPartNumber=TPS60310&fileType=pdf; ComponentLink3Description: Package Specification; ComponentLink3URL: http://www.ti.com/litv/pdf/mpds373
footprint TI-DGS10_N (SOP, 10-Leads, Body 3x3mm, Pitch 0.5mm, IPC Medium Density)
footprint TI-DGS10_L (SOP, 10-Leads, Body 3x3mm, Pitch 0.5mm, IPC High Density)
footprint TI-DGS10_M (SOP, 10-Leads, Body 3x3mm, Pitch 0.5mm, IPC Low Density)
pins: 1 ~{SNOOZE} (in) "Snooze mode enable input - S\N\O\O\Z\E\ = Low enables the snooze mode at low output current. - S\N\O\O\Z\E\ = High disables the snooze mode.", 2 C1- "Negative terminal of the flying capacitor C1F", 3 VIN (power) "Supply input. Bypass VIN to GND with a = 1-µF capacitor", 4 C1+ "Positive terminal of the flying capacitor C1F", 5 OUT1 (power) "2 x VIN power output. Bypass OUT1 to GND with the output filter capacitor C(OUT1)", 6 OUT2 (power) "Regulated 3.3-V power output (TPS60310, TPS60312) or 3-V power output (TPS60311, TPS60313), respectively Bypass OUT2 to GND with the output filter capacitor C(OUT2)", 7 C2+ "Positive terminal of the flying capacitor C2F", 8 C2- "Negative terminal of the flying capacitor C2F", 9 GND (power) "GROUND", 10 PG (oc) "Power good detector output. As soon as the voltage on OUT2 reaches about 98% of its nominal value this pin goes high. Open drain output on TPS60310 and TPS60311. A pullup resistor should be connected between PG and OUT1 or (See Datasheet)"

## TPS60310DGSR
designator U?
3.3 V, Boost Charge Pump, 20 mA, 0.9 to 1.8 V Input, -40 to 125 degC, 10-pin SOP (DGS10), Green (RoHS & no Sb/Br); Manufacturer: Texas Instruments; PartNumber: TPS60310DGSR; Efficiency(Typ)(%): 85; Iout(Max)(A): 0.02; Iq(Typ)(mA): 0.035; Preset Vout(V): 3.3; Switching Frequency(Max)(kHz): 900; Vin(Max)(V): 1.8; Vin(Min)(V): 0.9; Vout(Max)(V): 3.43; Vout(Min)(V): 3.17; DatasheetVersion: SLVS362A; PackageVersion: 4073225-6/I; PackageReference: DGS10; PackageDescription: 10-Pin Plastic Small Outline, Body 3.00 x 3.00 mm, Pitch 0.50 mm; Supplier 1: Digi-Key; Supplier Part Number 1: 296-13414-2-ND; Supplier 2: Digi-Key; Supplier Part Number 2: 296-13414-1-ND; Supplier 3: Digi-Key; Supplier Part Number 3: 296-13414-6-ND; Supplier 4: Newark; Supplier Part Number 4: 77C0618; Supplier 5: Mouser; Supplier Part Number 5: 595-TPS60310DGSR; Eco-Plan: Green (RoHS & no Sb/Br); Topology: Boost; Mounting Technology: Surface Mount; Code_JEDEC: MO-153; ComponentLink1Description: Manufacturer URL; ComponentLink1URL: http://www.ti.com/; ComponentLink2Description: Datasheet; ComponentLink2URL: http://www.ti.com/general/docs/lit/getliterature.tsp?genericPartNumber=TPS60310&fileType=pdf; ComponentLink3Description: Package Specification; ComponentLink3URL: http://www.ti.com/litv/pdf/mpds373
footprint TI-DGS10_N (SOP, 10-Leads, Body 3x3mm, Pitch 0.5mm, IPC Medium Density)
footprint TI-DGS10_L (SOP, 10-Leads, Body 3x3mm, Pitch 0.5mm, IPC High Density)
footprint TI-DGS10_M (SOP, 10-Leads, Body 3x3mm, Pitch 0.5mm, IPC Low Density)
pins: 1 ~{SNOOZE} (in) "Snooze mode enable input - S\N\O\O\Z\E\ = Low enables the snooze mode at low output current. - S\N\O\O\Z\E\ = High disables the snooze mode.", 2 C1- "Negative terminal of the flying capacitor C1F", 3 VIN (power) "Supply input. Bypass VIN to GND with a = 1-µF capacitor", 4 C1+ "Positive terminal of the flying capacitor C1F", 5 OUT1 (power) "2 x VIN power output. Bypass OUT1 to GND with the output filter capacitor C(OUT1)", 6 OUT2 (power) "Regulated 3.3-V power output (TPS60310, TPS60312) or 3-V power output (TPS60311, TPS60313), respectively Bypass OUT2 to GND with the output filter capacitor C(OUT2)", 7 C2+ "Positive terminal of the flying capacitor C2F", 8 C2- "Negative terminal of the flying capacitor C2F", 9 GND (power) "GROUND", 10 PG (oc) "Power good detector output. As soon as the voltage on OUT2 reaches about 98% of its nominal value this pin goes high. Open drain output on TPS60310 and TPS60311. A pullup resistor should be connected between PG and OUT1 or (See Datasheet)"

## TPS60310DGSRG4
designator U?
3.3 V, Boost Charge Pump, 20 mA, 0.9 to 1.8 V Input, -40 to 125 degC, 10-pin SOP (DGS10), Green (RoHS & no Sb/Br); Manufacturer: Texas Instruments; PartNumber: TPS60310DGSRG4; Efficiency(Typ)(%): 85; Iout(Max)(A): 0.02; Iq(Typ)(mA): 0.035; Preset Vout(V): 3.3; Switching Frequency(Max)(kHz): 900; Vin(Max)(V): 1.8; Vin(Min)(V): 0.9; Vout(Max)(V): 3.43; Vout(Min)(V): 3.17; DatasheetVersion: SLVS362A; PackageVersion: 4073225-6/I; PackageReference: DGS10; PackageDescription: 10-Pin Plastic Small Outline, Body 3.00 x 3.00 mm, Pitch 0.50 mm; Supplier 1: Digi-Key; Supplier Part Number 1: TPS60310DGSRG4-ND; Supplier 2: Mouser; Supplier Part Number 2: 595-TPS60310DGSRG4; Eco-Plan: Green (RoHS & no Sb/Br); Topology: Boost; Mounting Technology: Surface Mount; Code_JEDEC: MO-153; ComponentLink1Description: Manufacturer URL; ComponentLink1URL: http://www.ti.com/; ComponentLink2Description: Datasheet; ComponentLink2URL: http://www.ti.com/general/docs/lit/getliterature.tsp?genericPartNumber=TPS60310&fileType=pdf; ComponentLink3Description: Package Specification; ComponentLink3URL: http://www.ti.com/litv/pdf/mpds373
footprint TI-DGS10_N (SOP, 10-Leads, Body 3x3mm, Pitch 0.5mm, IPC Medium Density)
footprint TI-DGS10_L (SOP, 10-Leads, Body 3x3mm, Pitch 0.5mm, IPC High Density)
footprint TI-DGS10_M (SOP, 10-Leads, Body 3x3mm, Pitch 0.5mm, IPC Low Density)
pins: 1 ~{SNOOZE} (in) "Snooze mode enable input - S\N\O\O\Z\E\ = Low enables the snooze mode at low output current. - S\N\O\O\Z\E\ = High disables the snooze mode.", 2 C1- "Negative terminal of the flying capacitor C1F", 3 VIN (power) "Supply input. Bypass VIN to GND with a = 1-µF capacitor", 4 C1+ "Positive terminal of the flying capacitor C1F", 5 OUT1 (power) "2 x VIN power output. Bypass OUT1 to GND with the output filter capacitor C(OUT1)", 6 OUT2 (power) "Regulated 3.3-V power output (TPS60310, TPS60312) or 3-V power output (TPS60311, TPS60313), respectively Bypass OUT2 to GND with the output filter capacitor C(OUT2)", 7 C2+ "Positive terminal of the flying capacitor C2F", 8 C2- "Negative terminal of the flying capacitor C2F", 9 GND (power) "GROUND", 10 PG (oc) "Power good detector output. As soon as the voltage on OUT2 reaches about 98% of its nominal value this pin goes high. Open drain output on TPS60310 and TPS60311. A pullup resistor should be connected between PG and OUT1 or (See Datasheet)"

## TPS60311DGS
designator U?
3 V, Boost Charge Pump, 20 mA, 0.9 to 1.8 V Input, -40 to 125 degC, 10-pin SOP (DGS10), Green (RoHS & no Sb/Br); Manufacturer: Texas Instruments; PartNumber: TPS60311DGS; Efficiency(Typ)(%): 85; Iout(Max)(A): 0.02; Iq(Typ)(mA): 0.035; Preset Vout(V): 3; Switching Frequency(Max)(kHz): 900; Vin(Max)(V): 1.8; Vin(Min)(V): 0.9; Vout(Max)(V): 3.12; Vout(Min)(V): 2.88; DatasheetVersion: SLVS362A; PackageVersion: 4073225-6/I; PackageReference: DGS10; PackageDescription: 10-Pin Plastic Small Outline, Body 3.00 x 3.00 mm, Pitch 0.50 mm; Supplier 1: Digi-Key; Supplier Part Number 1: 296-34625-5-ND; Supplier 2: Newark; Supplier Part Number 2: 77C0619; Supplier 3: Mouser; Supplier Part Number 3: 595-TPS60311DGS; Eco-Plan: Green (RoHS & no Sb/Br); Topology: Boost; Mounting Technology: Surface Mount; Code_JEDEC: MO-153; ComponentLink1Description: Manufacturer URL; ComponentLink1URL: http://www.ti.com/; ComponentLink2Description: Datasheet; ComponentLink2URL: http://www.ti.com/general/docs/lit/getliterature.tsp?genericPartNumber=TPS60311&fileType=pdf; ComponentLink3Description: Package Specification; ComponentLink3URL: http://www.ti.com/litv/pdf/mpds373
footprint TI-DGS10_N (SOP, 10-Leads, Body 3x3mm, Pitch 0.5mm, IPC Medium Density)
footprint TI-DGS10_L (SOP, 10-Leads, Body 3x3mm, Pitch 0.5mm, IPC High Density)
footprint TI-DGS10_M (SOP, 10-Leads, Body 3x3mm, Pitch 0.5mm, IPC Low Density)
pins: 1 ~{SNOOZE} (in) "Snooze mode enable input - S\N\O\O\Z\E\ = Low enables the snooze mode at low output current. - S\N\O\O\Z\E\ = High disables the snooze mode.", 2 C1- "Negative terminal of the flying capacitor C1F", 3 VIN (power) "Supply input. Bypass VIN to GND with a = 1-µF capacitor", 4 C1+ "Positive terminal of the flying capacitor C1F", 5 OUT1 (power) "2 x VIN power output. Bypass OUT1 to GND with the output filter capacitor C(OUT1)", 6 OUT2 (power) "Regulated 3.3-V power output (TPS60310, TPS60312) or 3-V power output (TPS60311, TPS60313), respectively Bypass OUT2 to GND with the output filter capacitor C(OUT2)", 7 C2+ "Positive terminal of the flying capacitor C2F", 8 C2- "Negative terminal of the flying capacitor C2F", 9 GND (power) "GROUND", 10 PG (oc) "Power good detector output. As soon as the voltage on OUT2 reaches about 98% of its nominal value this pin goes high. Open drain output on TPS60310 and TPS60311. A pullup resistor should be connected between PG and OUT1 or (See Datasheet)"